# Altium schematic symbol library resistor.SchLib: 1 symbol
Pins are listed as number, name and electrical type; pins without a type are passive.

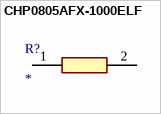
[diagram p0: symbol CHP0805AFX-1000ELF]

## CHP0805AFX-1000ELF
designator R?
Resistor; Manufacturer_Name: Bourns; Manufacturer_Part_Number: CHP0805AFX-1000ELF; Datasheet Link: https://www.mouser.cn/datasheet/2/54/chp-a-1858677.pdf; Height: 0.6mm
footprint FP-CRCW0805-e3-IPC_A
pins: 1, 2